# EAGLE library part A4982 (library fmcVarious)
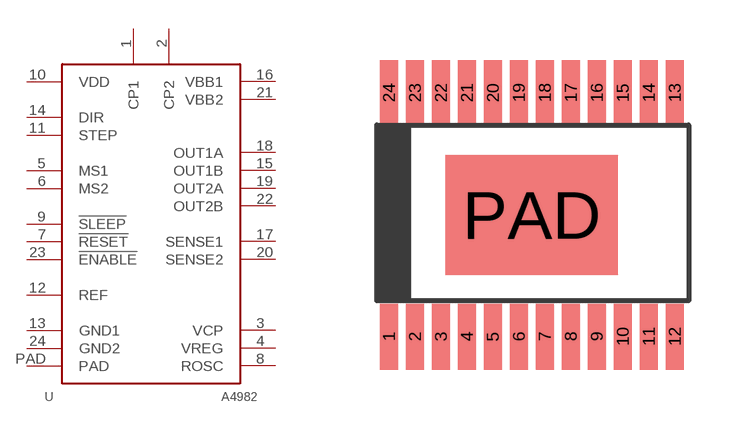
[diagram p0: symbol with the pads of TSSOP-24; footprint TSSOP-24]

Designator prefix U

## A4982  [TSSOP-24]
1  CP1  pas
2  CP2  pas
3  VCP  pas
4  VREG  pas
5  MS1  in
6  MS2  in
7  !RESET  in
8  ROSC  pas
9  !SLEEP  in
10  VDD  pwr
11  STEP  in
12  REF  in
13  GND1  sup
14  DIR  in
15  OUT1B  out
16  VBB1  pwr
17  SENSE1  pas
18  OUT1A  out
19  OUT2A  out
20  SENSE2  pas
21  VBB2  pwr
22  OUT2B  out
23  !ENABLE  in
24  GND2  sup
PAD  PAD  sup

## Footprint TSSOP-24 (pad centres in mm)
smd 0.45 x 1.65: 1 -3.6,-3.1; 2 -2.95,-3.1; 3 -2.3,-3.1; 4 -1.65,-3.1; 5 -1,-3.1; 6 -0.35,-3.1; 7 0.3,-3.1; 8 0.95,-3.1; 9 1.6,-3.1; 10 2.25,-3.1; 11 2.9,-3.1; 12 3.55,-3.1; 13 3.55,3; 14 2.9,3; 15 2.25,3; 16 1.6,3; 17 0.95,3; 18 0.3,3; 19 -0.35,3; 20 -1,3; 21 -1.65,3; 22 -2.3,3; 23 -2.95,3; 24 -3.6,3
smd 4.32 x 3: PAD -0.025,-0.05